# Altium schematic symbol library 拨码开关.SchLib: 12 symbols
Pins are listed as number, name and electrical type; pins without a type are passive.

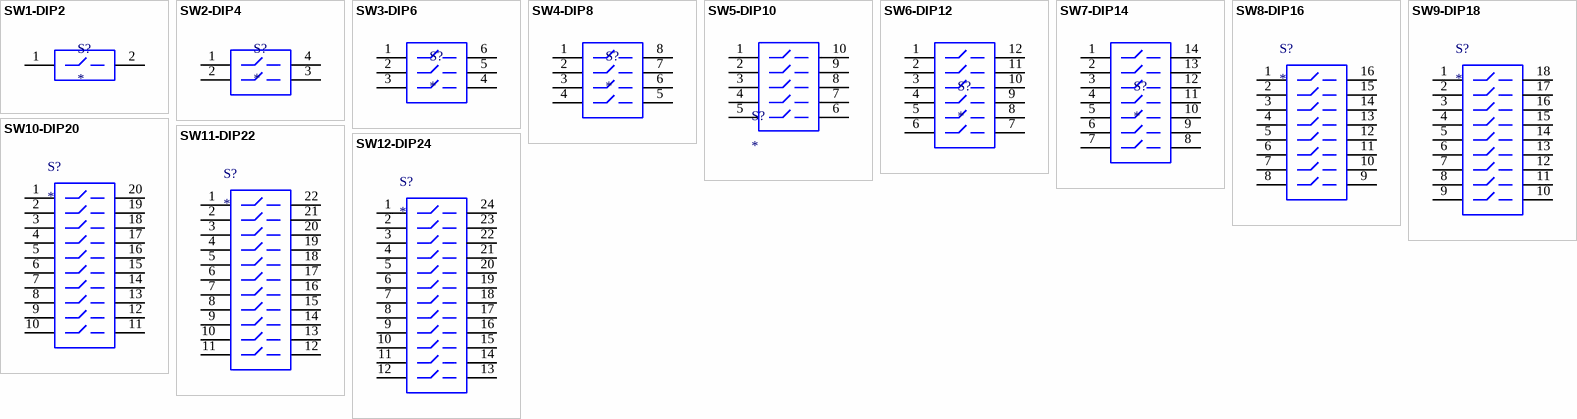
[diagram p0: symbols SW1-DIP2 to SW12-DIP24]

## SW1-DIP2
designator S?
footprint DIP-1P (4.1*9.9*7mm)
footprint DIP-1P_R (4.1*9.9*7mm)
pins: 1 A1, 2

## SW2-DIP4
designator S?
footprint DIP-Switch2
footprint DIP-Switch2_C
footprint DIP-2P_R (6.6*9.9*7mm)
footprint DIP-2P (6.6*9.9*7mm)
footprint SMD-2P (长：4.14mm，宽：5.4mm，高：2.3mm)
pins: 1 A1, 2 A2, 3 B2, 4 B1

## SW3-DIP6
designator S?
footprint DIP-Switch3
footprint DIP-3P (9.2*9.9*7mm)
footprint DIP-3P_R (9.2*9.9*7mm)
footprint SMD-3P (长：5.41mm，宽：5.4mm，高：2.3mm)
pins: 1 A1, 2 A2, 3 A3, 4 B3, 5 B2, 6 B1

## SW4-DIP8
designator S?
footprint DIP-Switch4
footprint DIP-4P_R (11.7*9.9*7mm)
footprint DIP-4P (11.7*9.9*7mm)
footprint SMD-4P (长：6.68mm，宽：5.4mm，高：2.3mm)
pins: 1, 2, 3, 4, 5, 6, 7, 8

## SW5-DIP10
designator S?
footprint DIP-Switch5
footprint DIP-5P (14.2*9.9*7mm)
footprint DIP-5P_R (14.2*9.9*7mm)
footprint SMD-5P (长：7.95mm，宽：5.4mm，高：2.3mm)
pins: 1 A1, 2 A2, 3 A3, 4 A4, 5 A5, 6 A6, 7 B6, 8 B5, 9 B4, 10 B3

## SW6-DIP12
designator S?
footprint DIP-Switch6
footprint DIP-6P (16.8*9.9*7mm)
footprint DIP-6P_R (16.8*9.9*7mm)
footprint SMD-6P (长：9.22mm，宽：5.4mm，高：2.3mm)
pins: 1 A1, 2 A2, 3 A3, 4 A4, 5 A5, 6 A6, 7 B6, 8 B5, 9 B4, 10 B3, 11 B2, 12 B1

## SW7-DIP14
designator S?
footprint DIP-7P (19.3*9.9*7mm)
footprint DIP-7P_R (19.3*9.9*7mm)
pins: 1 A1, 2 A2, 3 A3, 4 A4, 5 A5, 6 A6, 7 B6, 8 B5, 9 B4, 10 B3, 11 B2, 12 B1, 13 B2, 14 B3

## SW8-DIP16
designator S?
footprint DIP-Switch8
footprint DIP-8P (21.9*9.9*7mm)
footprint DIP-8P_R (21.9*9.9*7mm)
footprint SMD-8P (长：11.76mm，宽：5.4mm，高：2.3mm)
pins: 1, 2, 3, 4, 5, 6, 7, 8, 9, 10, 11, 12, 13, 14, 15, 16

## SW9-DIP18
designator S?
footprint DIP-9P_R (21.4*9.9*7mm)
footprint DIP-9P (21.4*9.9*7mm)
pins: 1, 2, 3, 4, 5, 6, 7, 8, 9, 10, 11, 12, 13, 14, 15, 16, 17, 18

## SW10-DIP20
designator S?
footprint DIP-10P_R (27*9.9*7mm)
footprint DIP-10P (27*9.9*7mm)
footprint SMD-10P (长：14.3mm，宽：5.4mm，高：2.3mm)
pins: 1, 2, 3, 4, 5, 6, 7, 8, 9, 10, 11, 12, 13, 14, 15, 16, 17, 18, 19, 20

## SW11-DIP22
designator S?
footprint DIP-11P_R (29.5*9.9*7mm)
footprint DIP-11P (29.5*9.9*7mm)
pins: 1, 2, 3, 4, 5, 6, 7, 8, 9, 10, 11, 12, 13, 14, 15, 16, 17, 18, 19, 20, 21, 22

## SW12-DIP24
designator S?
footprint DIP-12P_R (32.1*9.9*7mm)
footprint DIP-12P (32.1*9.9*7mm)
pins: 1, 2, 3, 4, 5, 6, 7, 8, 9, 10, 11, 12, 13, 14, 15, 16, 17, 18, 19, 20, 21, 22, 23, 24